# EAGLE library part AD9102BCPZ (library AD9102BCPZ)
Analog Devices AD9102BCPZ, 14 bit Serial DAC, 180Msps, 32-Pin LFCSP Source: Datasheet <https://www.analog.com/media/en/technical-documentation/data-sheets/AD9102.pdf>
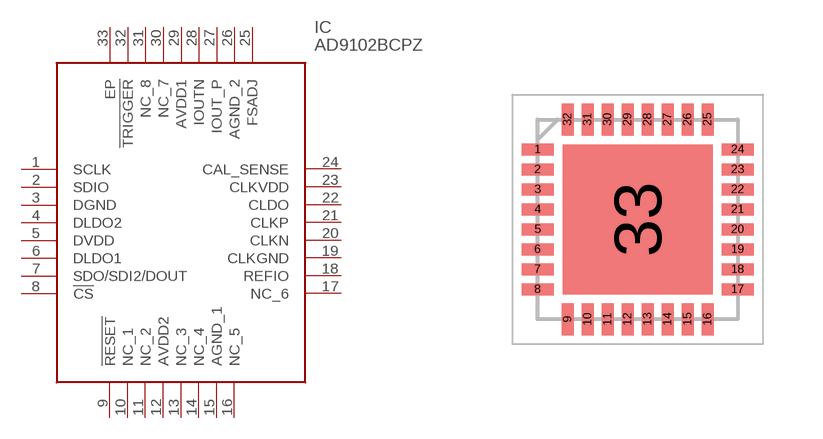
[diagram p0: symbol with the pads of QFN50P500X500X80-33N; footprint QFN50P500X500X80-33N]

Designator prefix IC

## AD9102BCPZ (Description: Analog Devices AD9102BCPZ, 14 bit Serial DAC, 180Msps, 32-Pin LFCSP; Height: 0.8mm; Manufacturer_Name: Analog Devices; Manufacturer_Part_Number: AD9102BCPZ; Mouser_Part_Number: 584-AD9102BCPZ; Mouser_Price-Stock: https://www.mouser.co.uk/ProductDetail/Analog-Devices/AD9102BCPZ?qs=%2FtpEQrCGXCx4RM%2FcE0d16g%3D%3D)  [QFN50P500X500X80-33N]
1  SCLK
2  SDIO
3  DGND
4  DLDO2
5  DVDD
6  DLDO1
7  SDO/SDI2/DOUT
8  !CS
9  !RESET
10  NC_1
11  NC_2
12  AVDD2
13  NC_3
14  NC_4
15  AGND_1
16  NC_5
17  NC_6
18  REFIO
19  CLKGND
20  CLKN
21  CLKP
22  CLDO
23  CLKVDD
24  CAL_SENSE
25  FSADJ
26  AGND_2
27  IOUT_P
28  IOUTN
29  AVDD1
30  NC_7
31  NC_8
32  !TRIGGER
33  EP

## Footprint QFN50P500X500X80-33N (pad centres in mm)
AD9102BCPZ
smd 0.8 x 0.3: 1 -2.5,1.75; 2 -2.5,1.25; 3 -2.5,0.75; 4 -2.5,0.25; 5 -2.5,-0.25; 6 -2.5,-0.75; 7 -2.5,-1.25; 8 -2.5,-1.75; 17 2.5,-1.75; 18 2.5,-1.25; 19 2.5,-0.75; 20 2.5,-0.25; 21 2.5,0.25; 22 2.5,0.75; 23 2.5,1.25; 24 2.5,1.75
smd 0.3 x 0.8: 9 -1.75,-2.5; 10 -1.25,-2.5; 11 -0.75,-2.5; 12 -0.25,-2.5; 13 0.25,-2.5; 14 0.75,-2.5; 15 1.25,-2.5; 16 1.75,-2.5; 25 1.75,2.5; 26 1.25,2.5; 27 0.75,2.5; 28 0.25,2.5; 29 -0.25,2.5; 30 -0.75,2.5; 31 -1.25,2.5; 32 -1.75,2.5
smd 3.75 x 3.75: 33 0,0